# Altium footprint library Transformer.PcbLib: 20 footprints (part 1 of 2)
Each footprint in its own frame and in the unit in brackets; x right, y up, seen from the top. Pads: shape width x height; smd on the part's side, far side on the other; paste and mask are expansions set on the pad; w line width, h text height; cw(c..) or ccw(c..) is an arc to the next point about the centre after c.
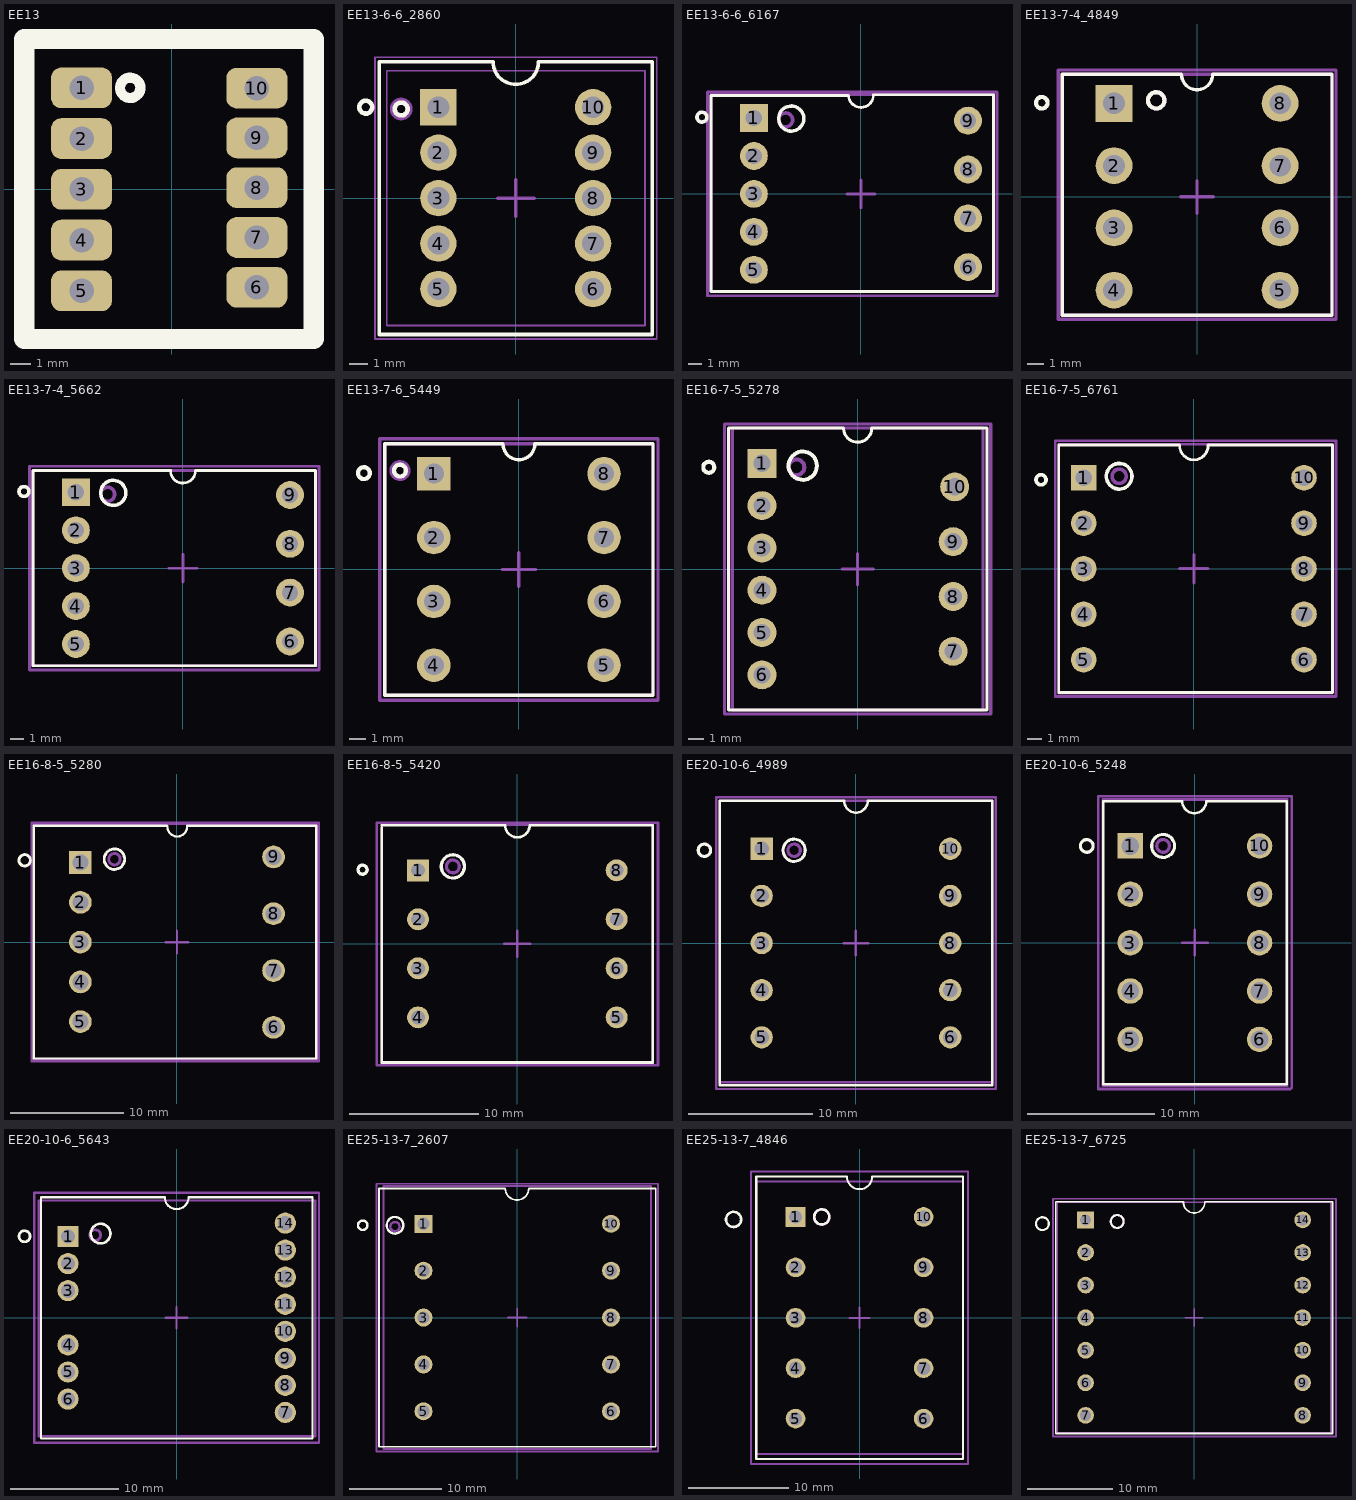
[diagram p0: the footprints below, top view; thin cyan lines are the x and y axes]

## EE13 [mm]
pads (10):
  rrect50% 3x2 hole 1.2: 1(-4.422,4.966) 2(-4.422,2.475) 3(-4.422,-0.016) 4(-4.422,-2.507) 5(-4.422,-4.998) 6(4.191,-4.826) 7(4.191,-2.381) 8(4.191,0.064) 9(4.191,2.508) 10(4.191,4.953)
Top Overlay:
  circle w0.5: c-2.032,4.966 r0.5
  lines w1: -7.239,-7.366 -7.239,7.366 6.985,7.366 6.985,-7.366 -7.239,-7.366
3D body "User Library-EE13-T304.STEP": height 11.88, standoff -4.67, extent -6.327,-6.61 6.073,6.61

## EE13-6-6_2860 [mm] "THT, Body 14.73X14.73mm, 10Pins,Pitch 2.50mm"
height 15.24
pads (10):
  rect 2x2 hole 1.2: 1(-4.255,5)
  round 2 hole 1.2: 2(-4.255,2.5) 3(-4.255,0) 4(-4.255,-2.5) 5(-4.255,-5) 6(4.255,-5) 7(4.255,-2.5) 8(4.255,0) 9(4.255,2.5) 10(4.255,5)
Top Overlay:
  circle w0.254: c-8.25,5 r0.354
  circle w0.254: c-6.3,4.9 r0.354
  lines w0.2: -7.5,-7.5 -7.5,7.5 -1.25,7.5 ccw(c0,7.5) 1.25,7.5 7.5,7.5 7.5,-7.5 -7.5,-7.5
Mechanical 13:
  circle w0.254: c-6.3,4.9 r0.5
  lines w0.1: -7.1,-7 -7.1,7 7.1,7 7.1,-7 -7.1,-7
Mechanical 15:
  lines w0.1: -7.75,-7.75 -7.75,7.75 7.75,7.75 7.75,-7.75 -7.75,-7.75
  lines w0.2: -1,0 1,0 ; 0,-1 0,1
  text ".Designator" at 0,0 h0.5
3D body "070-2860.stp": height 14.24, standoff -2.54, extent -6.909,-6.8 6.909,6.83

## EE13-6-6_6167 [mm] "THT, Body 20.45x13.72mm, 9Pins,Pitch 2.72mm"
height 14
pads (9):
  rect 2x2 hole 1.17: 1(-7.675,5.44)
  round 2 hole 1.17: 2(-7.675,2.72) 3(-7.675,0) 4(-7.675,-2.72) 5(-7.675,-5.44) 6(7.675,-5.25) 7(7.675,-1.75) 8(7.675,1.75) 9(7.675,5.25)
Top Overlay:
  circle w0.254: c-11.4,5.5 r0.354
  circle w0.254: c-5,5.4 r0.901
  lines w0.2: -10.75,7 -10.75,-7 9.5,-7 9.5,7 ; -10.75,7.055 -0.899,7.055 ccw(c0,7.1) 0.9,7.1 9.5,7.1
Mechanical 13:
  circle w0.254: c-5.4,5.3 r0.5
  lines w0.2: -10.75,-7 -10.75,7.1 9.5,7.1 9.5,-7 -10.75,-7
Mechanical 15:
  lines w0.2: -1,0 1,0 ; 0,-1 0,1 ; -11,-7.3 9.75,-7.3 9.75,7.3 -11,7.3 -11,-7.3
  text ".Designator" at 0,0 h0.5
3D body "EE13-6-6_6167.STEP": height 15.47, standoff -1.91, extent -10.35,-6.8 9.15,6.83

## EE13-7-4_4849 [mm] "THT, Body 16.76x14.70mm, 8Pins,Pitch 2.72mm"
height 12.7
pads (8):
  rect 2.25x2.25 hole 1.32: 1(-5.08,5.715)
  round 2.25 hole 1.32: 2(-5.08,1.905) 3(-5.08,-1.905) 4(-5.08,-5.715) 5(5.08,-5.715) 6(5.08,-1.905) 7(5.08,1.905) 8(5.08,5.715)
Top Overlay:
  circle w0.254: c-9.5,5.75 r0.354
  circle w0.254: c-2.5,5.9 r0.5
  lines w0.2: 0.953,7.5 cw(c0,7.5) -0.953,7.5 -8.25,7.5 -8.25,-7.25 8.25,-7.25 8.25,7.5 1,7.5
Mechanical 13:
  circle w0.254: c-2.5,5.9 r0.5
  lines w0.2: -8.25,-7.25 8.25,-7.25 8.25,7.5 -8.25,7.5 -8.25,-7.25
Mechanical 15:
  lines w0.2: -1,0 1,0 ; 0,-1 0,1 ; -8.5,-7.5 -8.5,7.75 8.5,7.75 8.5,-7.5 -8.5,-7.5
  text ".Designator" at 0,0 h0.5
3D body "070-4849.stp": height 11.6, standoff -3.59, extent -8,-7 8,7.2

## EE13-7-4_5662 [mm] "THT, Body 20.45x13.72mm, 9Pins,Pitch 2.72mm"
height 10.16
pads (9):
  rect 2x2 hole 1.17: 1(-7.675,5.44)
  round 2 hole 1.17: 2(-7.675,2.72) 3(-7.675,0) 4(-7.675,-2.72) 5(-7.675,-5.44) 6(7.675,-5.25) 7(7.675,-1.75) 8(7.675,1.75) 9(7.675,5.25)
Top Overlay:
  circle w0.254: c-5,5.4 r0.901
  circle w0.254: c-11.4,5.5 r0.354
  lines w0.2: -0.899,6.955 ccw(c0,7) 0.9,7 9.5,7 9.5,-7 -10.75,-7 -10.75,7 -0.88,7
Mechanical 13:
  circle w0.254: c-5.4,5.3 r0.5
  lines w0.2: -10.75,-7 9.5,-7 9.5,7 -10.75,7 -10.75,-7
Mechanical 15:
  lines w0.2: -1,0 1,0 ; 0,-1 0,1 ; -11,-7.3 -11,7.3 9.75,7.3 9.75,-7.3 -11,-7.3
  text ".Designator" at 0,0 h0.5
3D body "EE13-7-4-EF-12.6-5662-2300.STEP": height 9.49, standoff -2.51, extent -10.35,-6.7 9.15,6.603

## EE13-7-6_5449 [mm] "THT, Body 15X15.75mm, 8Pins,Pitch 3.81mm"
height 18.5
pads (8):
  rect 2x2 hole 1.19: 1(-5.08,5.715)
  round 2 hole 1.19: 2(-5.08,1.905) 3(-5.08,-1.905) 4(-5.08,-5.715) 5(5.08,-5.715) 6(5.08,-1.905) 7(5.08,1.905) 8(5.08,5.715)
Top Overlay:
  circle w0.254: c-7.1,5.9 r0.354
  circle w0.254: c-9.25,5.75 r0.354
  lines w0.2: -8,-7.5 8,-7.5 8,7.5 0.953,7.5 cw(c0,7.5) -0.953,7.5 -8,7.5 -8,-7.5
Mechanical 13:
  circle w0.254: c-7.1,5.9 r0.5
  lines w0.203: -8,-7.5 -8,7.5 8,7.5 8,-7.5 -8,-7.5
Mechanical 15:
  lines w0.2: -1,0 1,0 ; 0,-1 0,1
  lines w0.203: -8.3,-7.8 8.3,-7.8 8.3,7.8 -8.3,7.8 -8.3,-7.8
  text ".Designator" at 0,0 h0.5
3D body "EE13-6-6_5449.STEP": height 17.51, standoff -3.51, extent -7.455,-7.1 7.455,7.149

## EE16-7-5_5278 [mm] "THT, Body 18.50x16.50mm, 10Pins,Pitch 2.70mm"
height 18.8
pads (10):
  rect 1.85x1.85 hole 1.1: 1(-6.1,6.75)
  round 1.85 hole 1.1: 2(-6.1,4.05) 3(-6.1,1.35) 4(-6.1,-1.35) 5(-6.1,-4.05) 6(-6.1,-6.75) 7(6.1,-5.25) 8(6.1,-1.75) 9(6.1,1.75) 10(6.2,5.25)
Top Overlay:
  circle w0.254: c-9.5,6.5 r0.354
  circle w0.254: c-3.5,6.6 r0.901
  lines w0.2: -0.9,8.955 ccw(c-0.001,9) 0.899,9 ; -0.9,9 -8.25,9 -8.25,-9 8.25,-9 8.25,9 0.9,9
Mechanical 13:
  circle w0.254: c-3.9,6.5 r0.5
  lines w0.2: -8,-9 8,-9 8,9 -8,9 -8,-9
Mechanical 15:
  lines w0.2: -1,0 1,0 ; 0,-1 0,1 ; -8.5,-9.25 8.5,-9.25 8.5,9.25 -8.5,9.25 -8.5,-9.25
  text ".Designator" at 0,0 h0.5
3D body "070-5278.stp": height 17.4, standoff -4.17, extent -7.7,-8.81 7.78,8.81

## EE16-7-5_6761 [mm] "THT, Body 20x17.50mm, 10Pins,Pitch 3.20mm"
height 14
pads (10):
  rect 1.8x1.8 hole 1.17: 1(-7.75,6.4)
  round 1.8 hole 1.17: 2(-7.75,3.2) 3(-7.75,0) 4(-7.75,-3.2) 5(-7.75,-6.4) 6(7.75,-6.4) 7(7.75,-3.2) 8(7.75,0) 9(7.75,3.2) 10(7.75,6.4)
Top Overlay:
  circle w0.254: c-5.25,6.5 r0.901
  circle w0.254: c-10.75,6.25 r0.354
  lines w0.2: -9.5,-8.7 9.75,-8.7 9.75,8.7 1,8.7 cw(c0,8.655) -1,8.7 -9.5,8.7 -9.5,-8.7
Mechanical 13:
  circle w0.254: c-5.25,6.5 r0.5
  lines w0.2: -9.5,-8.75 -9.5,8.75 9.75,8.75 9.75,-8.75 -9.5,-8.75
Mechanical 15:
  lines w0.2: -1,0 1,0 ; 0,-1 0,1 ; -9.75,-9 10,-9 10,9 -9.75,9 -9.75,-9
  text ".Designator" at 0,0 h0.5
3D body "EE16-7-5_6761_noshell.STEP": height 13.19, standoff -3.5, extent -9.435,-8.32 9.635,8.4

## EE16-8-5_5280 [mm] "THT, Body 20.32x24.38mm, 10Pins,Pitch 3.20mm"
height 16
pads (9):
  rect 2x2 hole 1.4: 1(-8.5,7)
  round 2 hole 1.4: 2(-8.5,3.5) 3(-8.5,0) 4(-8.5,-3.5) 5(-8.5,-7) 6(8.5,-7.5) 7(8.5,-2.5) 8(8.5,2.5) 9(8.5,7.5)
Top Overlay:
  circle w0.254: c-5.5,7.3 r0.901
  circle w0.254: c-13.4,7.2 r0.5
  lines w0.2: -0.9,10.25 -12.6,10.25 -12.6,-10.25 12.25,-10.25 12.25,10.25 0.9,10.25 ; -0.85,10.2 ccw(c0.025,10.175) 0.9,10.2
Mechanical 13:
  circle w0.254: c-5.5,7.3 r0.5
  lines w0.2: -12.8,-10.3 -12.8,10.4 12.4,10.4 12.4,-10.3 -12.8,-10.3
Mechanical 15:
  lines w0.2: -1,0 1,0 ; 0,-1 0,1 ; -12.8,-10.5 -12.8,10.5 12.5,10.5 12.5,-10.5 -12.8,-10.5
  text ".Designator" at 0,0 h0.5
3D body "EE16-8-5-EF16-5280-1411.STEP": height 14.95, standoff -3.45, extent -12.21,-9.9 11.61,9.98

## EE16-8-5_5420 [mm] "THT, Body 20.30x17.96mm, 8Pins,Pitch 3.80mm"
height 14.3
pads (8):
  rect 1.7x1.7 hole 1.07: 1(-7.7,5.7)
  round 1.7 hole 1.07: 2(-7.7,1.9) 3(-7.7,-1.9) 4(-7.7,-5.7) 5(7.7,-5.7) 6(7.7,-1.9) 7(7.7,1.9) 8(7.7,5.7)
Top Overlay:
  circle w0.254: c-5,6 r0.901
  circle w0.254: c-12,5.75 r0.354
  lines w0.2: -10.5,9 -10.5,-9.2 10.5,-9.2 10.5,9.2 0.95,9.2 cw(c0,9.2) -0.95,9.2 -10.5,9.2
Mechanical 13:
  circle w0.254: c-5,6 r0.5
  lines w0.2: -10.5,-9.25 10.5,-9.25 10.5,9.25 -10.5,9.25 -10.5,-9.25
Mechanical 15:
  lines w0.2: -1,0 1,0 ; 0,-1 0,1 ; -10.9,-9.4 10.9,-9.4 10.9,9.4 -10.9,9.4 -10.9,-9.4
  text ".Designator" at 0,0 h0.5
3D body "EE16-8-5-EF16-5420-1411.STEP": height 13.4, standoff -3.7, extent -9.3,-8.85 9.5,8.85

## EE20-10-6_4989 [mm] "THT, Body 23.0x22.0mm, 10Pins,Pitch 3.81mm"
height 17.53
pads (10):
  rect 1.8x1.8 hole 1.17: 1(-7.62,7.62)
  round 1.8 hole 1.17: 2(-7.62,3.81) 3(-7.62,0) 4(-7.62,-3.81) 5(-7.62,-7.62) 6(7.62,-7.62) 7(7.62,-3.81) 8(7.62,0) 9(7.62,3.81) 10(7.62,7.62)
Top Overlay:
  circle w0.254: c-12.25,7.5 r0.5
  circle w0.254: c-5,7.5 r0.901
  lines w0.2: -11,11.5 -11,-11.5 11,-11.5 11,11.5 ; -10.985,11.5 -1,11.5 ; -0.953,11.5 ccw(c0,11.5) 0.953,11.5 ; 1,11.5 10.985,11.5
Mechanical 13:
  circle w0.254: c-5,7.5 r0.5
  lines w0.2: -11,-11.25 -11,11.5 11,11.5 11,-11.25 10.75,-11.25 -11,-11.25
Mechanical 15:
  lines w0.2: -1,0 1,0 ; 0,-1 0,1 ; -11.3,-11.8 -11.3,11.8 11.3,11.8 11.3,11.7 11.3,-11.8 -11.3,-11.8
  text ".Designator" at 0,0 h0.5
3D body "070-4989.stp": height 18.64, standoff -3.48, extent -10.61,-11 10.61,11

## EE20-10-6_5248 [mm] "THT, Body 22.25.0x14.4mm, 10Pins,Pitch 3.80mm"
height 23.24
pads (10):
  rect 2x2 hole 1.4: 1(-5.08,7.6)
  round 2 hole 1.4: 2(-5.08,3.8) 3(-5.08,0) 4(-5.08,-3.8) 5(-5.08,-7.6) 6(5.08,-7.6) 7(5.08,-3.8) 8(5.08,0) 9(5.08,3.8) 10(5.08,7.6)
Top Overlay:
  circle w0.254: c-8.5,7.6 r0.5
  circle w0.254: c-2.5,7.6 r0.901
  lines w0.2: -7.2,-11.125 7.2,-11.125 7.2,11.125 0.9,11.125 cw(c-0.05,11.125) -1,11.125 -7.2,11.125 -7.2,-11.125
Mechanical 13:
  circle w0.254: c-2.5,7.6 r0.5
  lines w0.2: -7.25,-11.25 7.25,-11.25 7.25,11.25 -7.25,11.25 -7.25,-11.25
Mechanical 15:
  lines w0.2: -1,0 1,0 ; 0,-1 0,1 ; -7.6,-11.5 7.5,-11.5 7.6,-11.4 7.6,11.5 -7.6,11.5 -7.6,-11.5
  text ".Designator" at 0,0 h0.5
3D body "070-5248.stp": height 23.31, standoff -3.4, extent -6.95,-11 6.95,11

## EE20-10-6_5643 [mm] "THT, Body 22.2.0x25.0mm, 14Pins,Pitch 2.49mm"
height 16
pads (14):
  rect 1.95x1.95 hole 1.32: 1(-10,7.48)
  round 1.95 hole 1.32: 2(-10,4.99) 3(-10,2.5) 4(-10,-2.5) 5(-10,-4.99) 6(-10,-7.48) 7(10,-8.715) 8(10,-6.225) 9(10,-3.735) 10(10,-1.245) 11(10,1.245) 12(10,3.735) 13(10,6.225) 14(10,8.715)
Top Overlay:
  circle w0.254: c-14,7.5 r0.51
  circle w0.254: c-7,7.75 r0.901
  lines w0.2: -12.5,-11.1 12.5,-11.1 12.5,11.1 1.1,11.1 cw(c0,11.095) -1.1,11.1 -12.5,11.1 -12.5,-11.1
Mechanical 13:
  circle w0.254: c-7.5,7.6 r0.5
  lines w0.2: -12.7,-10.9 12.75,-10.9 12.75,10.8 -12.7,10.8 -12.7,-10.9
Mechanical 15:
  lines w0.2: -1,0 1,0 ; 0,-1 0,1 ; -13.1,-11.5 13.1,-11.5 13.1,11.5 -13.1,11.5 -13.1,-11.5
  text ".Designator" at 0,0 h0.5
3D body "070-5643.stp": height 15.78, standoff -3.26, extent -12.44,-10.6 12.44,10.52

## EE25-13-7_2607 [mm] "THT, Body 29.21x27.94mm, 10Pins, Pitch 5.08mm"
height 21.59
pads (10):
  rect 1.95x1.95 hole 1.32: 1(-10.16,10.16)
  round 1.95 hole 1.32: 2(-10.16,5.08) 3(-10.16,0) 4(-10.16,-5.08) 5(-10.16,-10.16) 6(10.16,-10.16) 7(10.16,-5.08) 8(10.16,0) 9(10.16,5.08) 10(10.16,10.16)
Top Overlay:
  circle w0.254: c-13.25,10 r0.901
  circle w0.254: c-16.75,10 r0.51
  lines w0.2: 1.24,14 cw(c-0.03,14) -1.3,14 -15,14 -15,-14 15,-14 15,14 1.3,14
Mechanical 13:
  circle w0.254: c-13.25,9.85 r0.5
  lines w0.2: -14.5,-14.25 -14.5,14.25 14.5,14.25 14.5,-14.25 -14.5,-14.25
Mechanical 15:
  lines w0.2: -1,0 1,0 ; 0,-1 0,1 ; -15.25,-14.5 15.25,-14.5 15.25,14.5 -15.25,14.5 -15.25,-14.5
  text ".Designator" at 0,0 h0.5
3D body "070-2607.stp": height 19.91, standoff -3.31, extent -14,-13.75 14,13.75

## EE25-13-7_4846 [mm] "THT, Body 27.95x20.32mm, 10Pins, Pitch 5.00mm"
height 28.58
pads (10):
  rect 1.95x1.95 hole 1.32: 1(-6.35,10)
  round 1.95 hole 1.32: 2(-6.35,5) 3(-6.35,0) 4(-6.35,-5) 5(-6.35,-10) 6(6.35,-10) 7(6.35,-5) 8(6.35,0) 9(6.35,5) 10(6.35,10)
Top Overlay:
  circle w0.254: c-12.5,9.75 r0.75
  circle w0.254: c-3.75,10 r0.75
  lines w0.2: -10.25,-14 10.25,-14 10.25,14 1.25,14 cw(c0,14) -1.25,14 -10.25,14 -10.25,-14
Mechanical 13:
  circle w0.254: c-3.75,10 r0.757
  lines w0.2: -10.25,-13.5 -10.25,13.5 10.25,13.5 10.25,-13.25 10.25,-13.5 -10.25,-13.5
Mechanical 15:
  lines w0.2: -1,0 1,0 ; 0,-1 0,1 ; -10.75,-14.5 10.75,-14.5 10.75,14.5 -10.75,14.5 -10.75,-14.5
  text ".Designator" at 0,0 h0.5
3D body "070-4846.stp": height 28.2, standoff -2.91, extent -9.65,-13.002 9.75,13.002

## EE25-13-7_6725 [mm] "THT, Body 27.05x32.25mm, 14Pins, Pitch 3.81mm"
height 22.86
pads (14):
  rect 1.95x1.95 hole 1.32: 1(-12.7,11.43)
  round 1.95 hole 1.32: 2(-12.7,7.62) 3(-12.7,3.81) 4(-12.7,0) 5(-12.7,-3.81) 6(-12.7,-7.62) 7(-12.7,-11.43) 8(12.7,-11.43) 9(12.7,-7.62) 10(12.7,-3.81) 11(12.7,0) 12(12.7,3.81) 13(12.7,7.62) 14(12.7,11.43)
Top Overlay:
  circle w0.254: c-17.75,11 r0.75
  circle w0.254: c-9,11.25 r0.75
  lines w0.2: -16.2,13.55 -16.2,-13.55 16.2,-13.55 16.2,13.55 1.25,13.55 ; -16.14,13.55 -1.25,13.55 ; -1.25,13.5 ccw(c0,13.5) 1.25,13.5
Mechanical 13:
  circle w0.254: c-9,11.25 r0.757
  lines w0.2: -16,-13.5 16,-13.5 16,13.5 -16,13.5 -16,-13.5
Mechanical 15:
  lines w0.2: -1,0 1,0 ; 0,-1 0,1 ; -16.5,-13.9 16.6,-13.9 16.6,13.9 -16.5,13.9 -16.5,-13.9
  text ".Designator" at 0,0 h0.5
3D body "EE25-13-7_6725_noshell.STEP": height 21.47, standoff -3.51, extent -15.645,-13.1 15.645,13.02